# EAGLE library part XBEE_802.15.4 (library MRDT-Microcontrollers)
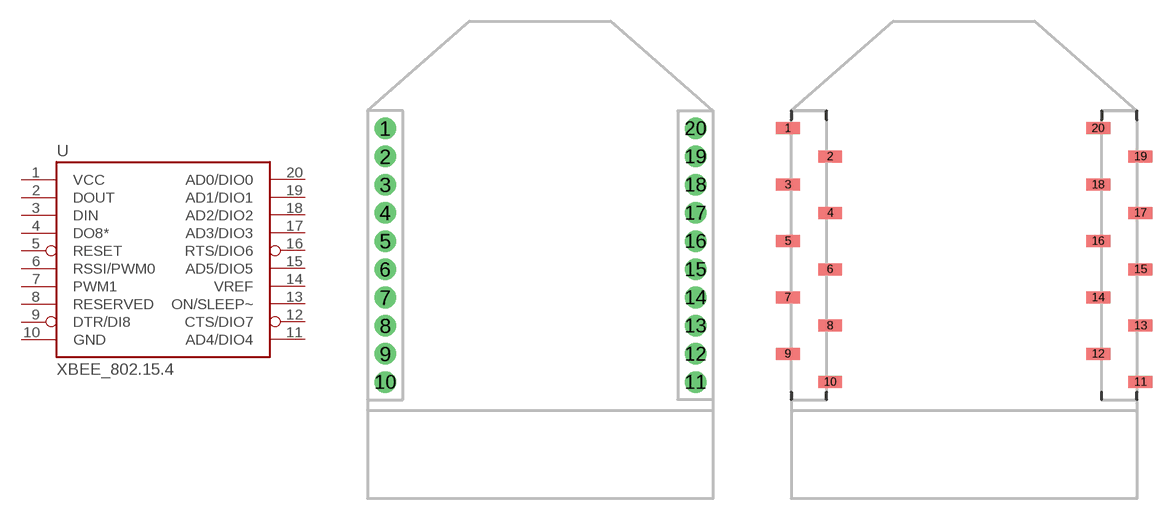
[diagram p0: symbol with the pads of XBEE_802.15.4_PTH; footprints XBEE_802.15.4_PTH, XBEE_802.15.4_SMD]

Designator prefix U

## XBEE_802.15.4PTH (PARTNO: WRL-08665)  [XBEE_802.15.4_PTH]
1  VCC  pwr
2  DOUT  out
3  DIN  in
4  DO8*
5  RESET  in
6  RSSI/PWM0
7  PWM1
8  RESERVED
9  DTR/DI8
10  GND  pwr
11  AD4/DIO4
12  CTS/DIO7  out
13  ON/SLEEP~
14  VREF
15  AD5/DIO5
16  RTS/DIO6  in
17  AD3/DIO3
18  AD2/DIO2
19  AD1/DIO1
20  AD0/DIO0

## XBEE_802.15.4SMD (PARTNO: WRL-08665)  [XBEE_802.15.4_SMD]
Pads as for XBEE_802.15.4_PTH

## Footprint XBEE_802.15.4_PTH (pad centres in mm)
drill 0.8 pad 1.524: 1 -11,20; 2 -11,18; 3 -11,16; 4 -11,14; 5 -11,12; 6 -11,10; 7 -11,8; 8 -11,6; 9 -11,4; 10 -11,2; 11 11,2; 12 11,4; 13 11,6; 14 11,8; 15 11,10; 16 11,12; 17 11,14; 18 11,16; 19 11,18; 20 11,20

## Footprint XBEE_802.15.4_SMD (pad centres in mm)
smd 1.7 x 0.85: 1 -13.77,20; 2 -10.77,18; 3 -13.77,16; 4 -10.77,14; 5 -13.77,12; 6 -10.77,10; 7 -13.77,8; 8 -10.77,6; 9 -13.77,4; 10 -10.77,2; 11 11.23,2; 12 8.23,4; 13 11.23,6; 14 8.23,8; 15 11.23,10; 16 8.23,12; 17 11.23,14; 18 8.23,16; 19 11.23,18; 20 8.23,20